# EAGLE library part A79115 (library 00shaunc)
Symbol(s) and footprint for the Omnetics (28) Socket Female Nano Circular Connector (A79115). Note: This footprint is untested. The clearances are very tight. Check the design rules for the fab house carefully!!.
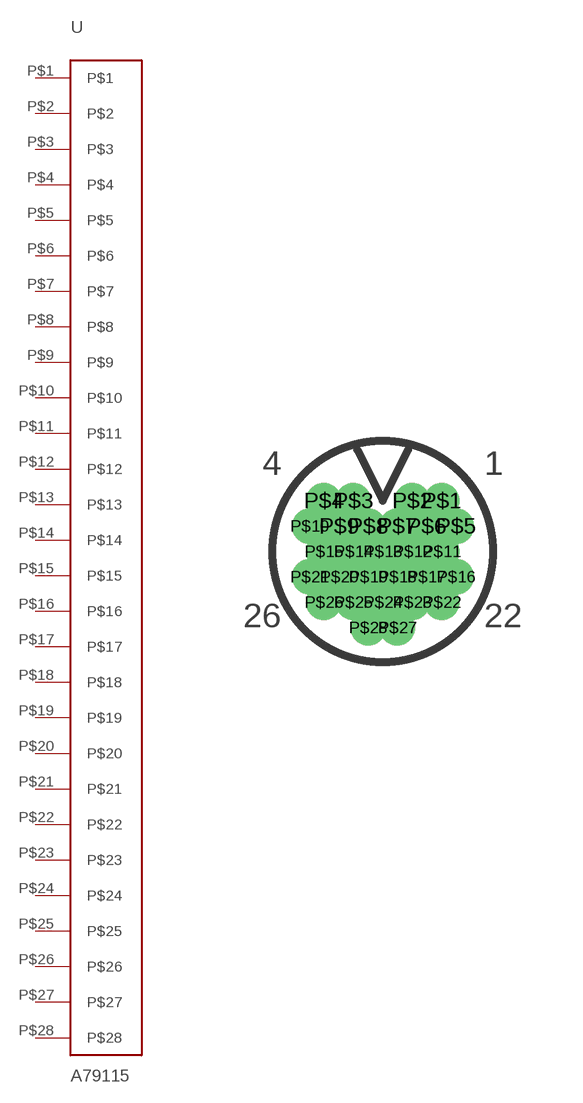
[diagram p11: symbol with the pads of A79115; footprint A79115]

Designator prefix -

## A79115  [A79115]
P$1  P$1
P$2  P$2
P$3  P$3
P$4  P$4
P$5  P$5
P$6  P$6
P$7  P$7
P$8  P$8
P$9  P$9
P$10  P$10
P$11  P$11
P$12  P$12
P$13  P$13
P$14  P$14
P$15  P$15
P$16  P$16
P$17  P$17
P$18  P$18
P$19  P$19
P$20  P$20
P$21  P$21
P$22  P$22
P$23  P$23
P$24  P$24
P$25  P$25
P$26  P$26
P$27  P$27
P$28  P$28

## Footprint A79115 (pad centres in mm)
drill 0.381 pad 0.66: P$1 1.473,1.27; P$2 0.737,1.27; P$3 -0.737,1.27; P$4 -1.473,1.27; P$5 1.831,0.635; P$6 1.092,0.635; P$7 0.366,0.635; P$8 -0.366,0.635; P$9 -1.092,0.635; P$10 -1.831,0.635; P$11 1.473,0; P$12 0.737,0; P$13 0,0; P$14 -0.737,0; P$15 -1.473,0; P$16 1.831,-0.635; P$17 1.092,-0.635; P$18 0.366,-0.635; P$19 -0.366,-0.635; P$20 -1.092,-0.635; P$21 -1.831,-0.635; P$22 1.473,-1.27; P$23 0.737,-1.27; P$24 0,-1.27; P$25 -0.737,-1.27; P$26 -1.473,-1.27; P$27 0.366,-1.905; P$28 -0.366,-1.905